# Altium integrated library RS_switches.IntLib: 2 symbols
Pins are listed as number, name and electrical type; pins without a type are passive.

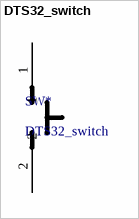
[diagram p0: symbol DTS32_switch]

## DTS32_switch
designator SW*
footprint DTS32
pins: 1, 2


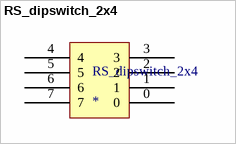
[diagram p1: symbol RS_dipswitch_2x4]

## RS_dipswitch_2x4
designator RS_dipswitch_2x4
footprint RS_dipswitch_2x4
pins: 0, 1, 2, 3, 4, 5, 6, 7